# Altium footprint library DIP buttons.PcbLib: 2 footprints
Each footprint in its own frame and in the unit in brackets; x right, y up, seen from the top. Pads: shape width x height; smd on the part's side, far side on the other; paste and mask are expansions set on the pad; w line width, h text height; cw(c..) or ccw(c..) is an arc to the next point about the centre after c.
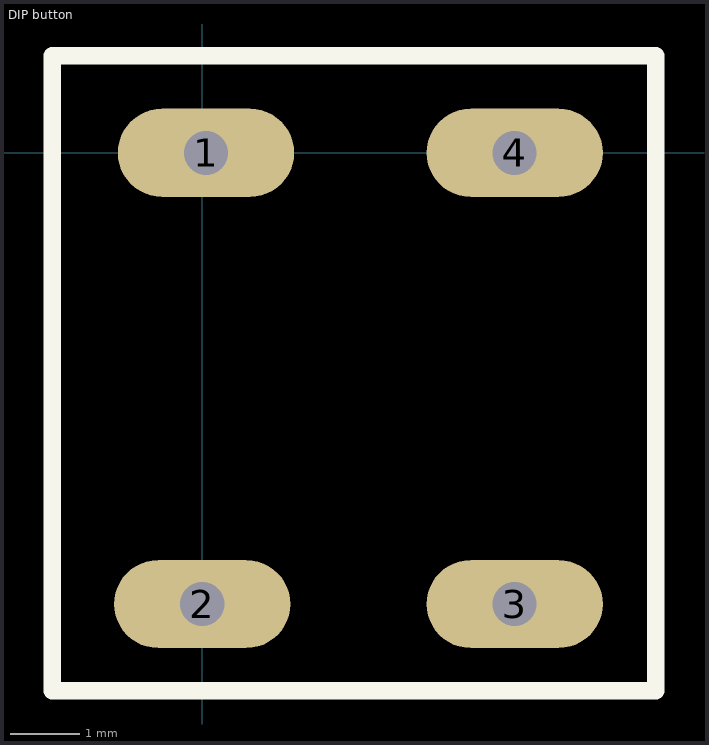
[diagram p0: the footprints below, top view; thin cyan lines are the x and y axes]

## DIP button [mm]
pads (4):
  oval 2.54x1.27 hole 0.635: 1(0.055,0) 2(0,-6.5) 3(4.5,-6.5) 4(4.5,0)
Top Overlay:
  lines w0.254: 6.477,1.397 0.56,1.397 -2.159,1.397 -2.159,-7.747 0.338,-7.747 6.532,-7.747 6.532,1.397

## PCBComponent_1 [mil]